# Altium footprint library ARCOM_Capacitors.PcbLib: 37 footprints (part 3 of 3)
Each footprint in its own frame and in the unit in brackets; x right, y up, seen from the top. Pads: shape width x height; smd on the part's side, far side on the other; paste and mask are expansions set on the pad; w line width, h text height; cw(c..) or ccw(c..) is an arc to the next point about the centre after c.
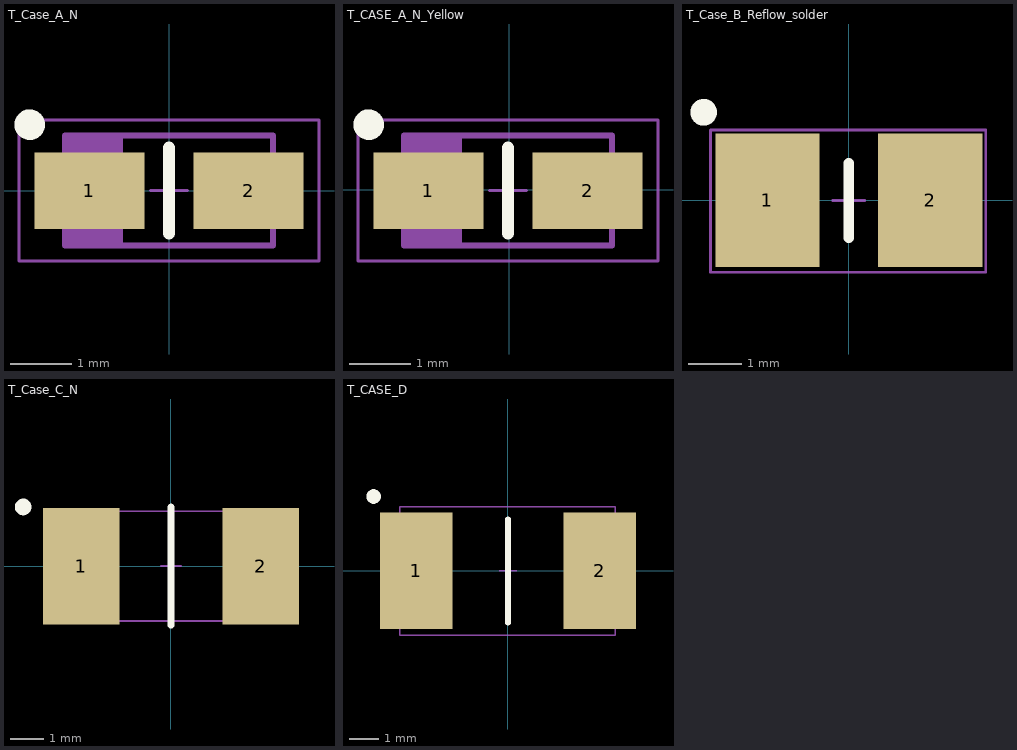
[diagram p2: the footprints below, top view; thin cyan lines are the x and y axes]

## T_Case_A_N [mm] "Capacitor, Polarized, Molded  Body 3.2x1.6mm, IPC Medium Density"
height 1.8
pads (2):
  rect 1.8x1.25 smd: 1(-1.3,0) 2(1.3,0)
Top Overlay:
  circle w0.25: c-2.275,1.075 r0.125
  lines w0.2: 0,-0.7 0,0.7
Mechanical 14:
  lines w0.1: -1.625,-0.9 -1.625,0.9 ; -1.55,-0.9 -1.55,0.9 ; -1.475,-0.9 -1.475,0.9 ; -1.4,-0.9 -1.4,0.9 ; -1.325,-0.9 -1.325,0.9 ; -1.25,-0.9 -1.25,0.9 ; -1.175,-0.9 -1.175,0.9 ; -1.1,-0.9 -1.1,0.9 ; -1.025,-0.9 -1.025,0.9 ; -0.95,-0.9 -0.95,0.9 ; -0.875,-0.9 -0.875,0.9 ; -1.7,-0.9 -1.7,0.9 1.7,0.9 1.7,-0.9 -1.7,-0.9 ; -0.8,-0.9 -0.8,0.9 -0.8,-0.9
Mechanical 15:
  lines w0.05: -0.3,0 0.3,0 ; 0,-0.3 0,0.3 ; -2.45,-1.15 2.45,-1.15 2.45,1.15 -2.45,1.15 -2.45,-1.15
3D body "CAPMP3216X180N.stp": height 1.6, standoff 0, extent -1.7,-0.9 1.7,0.9

## T_CASE_A_N_Yellow [mm]
pads (2):
  rect 1.8x1.25 smd: 1(-1.323,-0.015) 2(1.277,-0.015)
Top Overlay:
  circle w0.25: c-2.298,1.06 r0.125
  lines w0.2: -0.023,-0.715 -0.023,0.685
Mechanical 14:
  lines w0.1: -1.648,-0.915 -1.648,0.885 ; -1.573,-0.915 -1.573,0.885 ; -1.498,-0.915 -1.498,0.885 ; -1.423,-0.915 -1.423,0.885 ; -1.348,-0.915 -1.348,0.885 ; -1.273,-0.915 -1.273,0.885 ; -1.198,-0.915 -1.198,0.885 ; -1.123,-0.915 -1.123,0.885 ; -1.048,-0.915 -1.048,0.885 ; -0.973,-0.915 -0.973,0.885 ; -0.898,-0.915 -0.898,0.885 ; -1.723,-0.915 1.677,-0.915 1.677,0.885 -1.723,0.885 -1.723,-0.915 ; -0.823,-0.915 -0.823,0.885 -0.823,-0.915
Mechanical 15:
  lines w0.05: -0.323,-0.015 0.277,-0.015 ; -0.023,-0.315 -0.023,0.285 ; -2.473,-1.165 -2.473,1.135 2.427,1.135 2.427,-1.165 -2.473,-1.165
3D body "T491A224K035AT.step": height 1.81, standoff 0, extent -1.733,-0.899 1.667,0.901

## T_Case_B_Reflow_solder [mm] "Capacitor, Polarized, Molded  Body mm, IPC Medium Density"
height 2.1
pads (2):
  rect 1.95x2.5 smd: 1(-1.525,0) 2(1.525,0)
Top Overlay:
  circle w0.25: c-2.718,1.651 r0.125
  lines w0.2: 0,-0.7 0,0.7
Mechanical 15:
  lines w0.05: -0.3,0 0.3,0 ; 0,-0.3 0,0.3 ; -2.591,-1.346 -2.591,1.321 2.565,1.321 2.565,-1.346 -2.591,-1.346
3D body "User Library-Tantalum Capacitor Case B.STEP": height 2.08, standoff -0.02, extent -1.844,-1.419 1.847,1.401

## T_Case_C_N [mm] "Capacitor, Polarized, Molded  Body 7.2x3.2mm, IPC Medium Density"
height 1.8
pads (2):
  rect 2.3x3.5 smd: 1(-2.7,0) 2(2.7,0)
Top Overlay:
  circle w0.25: c-4.445,1.778 r0.125
  lines w0.2: 0,-1.778 0,1.778
Mechanical 15:
  lines w0.05: -0.3,0 0.3,0 ; 0,-0.3 0,0.3 ; -3.556,-1.651 -3.556,1.651 3.556,1.651 3.556,-1.651 -3.556,-1.651
3D body "User Library-Tantalum Capacitor Case C.STEP": height 2.71, standoff 0.02, extent -3.093,-1.6 3.093,1.605

## T_CASE_D [mm]
pads (2):
  rect 2.5x4 smd: 1(-3.15,0) 2(3.15,0)
Top Overlay:
  circle w0.25: c-4.615,2.548 r0.125
  lines w0.2: 0.005,-1.788 0.005,1.768
Mechanical 15:
  lines w0.05: -0.308,0.003 0.292,0.003 ; -0.008,-0.297 -0.008,0.303 ; -3.719,-2.212 3.691,-2.212 3.691,2.202 -3.719,2.202 -3.719,-2.212
3D body "User Library-CaseD_7343-31.STEP": height 2.8, standoff 0, extent -3.665,-2.146 3.635,2.154